# EAGLE library part P-06- (library con-headers-jp)
HEADER PLUG PINS
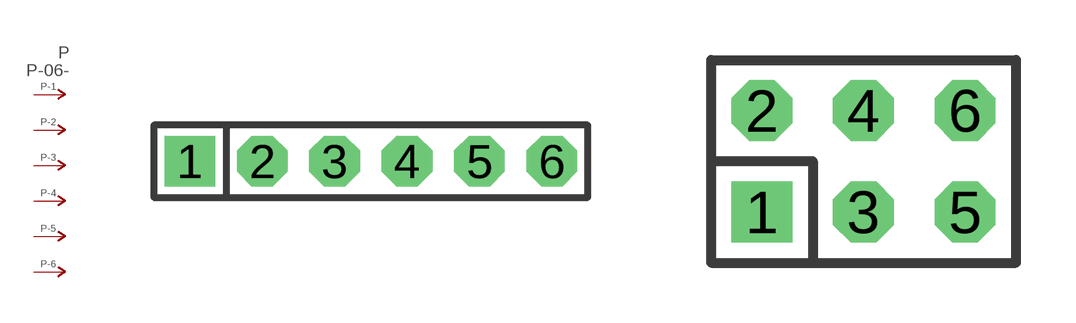
[diagram p10: symbol with the pads of SIP-100-06-40; footprints SIP-100-06-40, DIL-100-2X03]

Designator prefix P; gates -2=P-N -3=P-N -4=P-N -5=P-N -6=P-N -1=P-NV

## P-06-SIP-100-40  [SIP-100-06-40]
1  -1:P  pas
2  -2:P  pas
3  -3:P  pas
4  -4:P  pas
5  -5:P  pas
6  -6:P  pas

## P-06-100-2X03  [DIL-100-2X03]
Pads as for SIP-100-06-40

## P-06-100-2X03_M  [DIL-100-2X03_M]
Pads as for SIP-100-06-40

## P-06-2MM-2X03  [DIL-2MM-2X03]
Pads as for SIP-100-06-40

## P-06-2MM-2X03_M  [DIL-2MM-2X03_M]
Pads as for SIP-100-06-40

## P-06-SIP-100-32  [SIP-100-06-32]
Pads as for SIP-100-06-40

## P-06-SIP-100-40Y  [SIP-100-06-40Y]
Pads as for SIP-100-06-40

## P-06-SIP-100-32Y  [SIP-100-06-32Y]
Pads as for SIP-100-06-40

## P-06-LCW-106-XX-X-S  [LCW-106-XX-X-S]
Pads as for SIP-100-06-40

## P-06-LCW-106-XX-X-S-RE  [LCW-106-XX-X-S-RE]
Pads as for SIP-100-06-40

## Footprint SIP-100-06-40 (pad centres in mm)
SIP Header - 0.1", 40 mil drill
drill 1.016 pad 1.778 square: 1 -6.35,0
drill 1.016 pad 1.778 octagon: 2 -3.81,0; 3 -1.27,0; 4 1.27,0; 5 3.81,0; 6 6.35,0

## Footprint DIL-100-2X03 (pad centres in mm)
PIN HEADER - 0.1"
drill 1.016 square: 1 -2.54,-1.27
drill 1.016 octagon: 2 -2.54,1.27; 3 0,-1.27; 4 0,1.27; 5 2.54,-1.27; 6 2.54,1.27

## Footprint DIL-100-2X03_M (pad centres in mm)
PIN HEADER - MIRRORED 0.1"
drill 1.016 square: 1 -2.54,1.27
drill 1.016 octagon: 2 -2.54,-1.27; 3 0,1.27; 4 0,-1.27; 5 2.54,1.27; 6 2.54,-1.27

## Footprint DIL-2MM-2X03 (pad centres in mm)
PIN HEADER - 2MM"
drill 0.711 square: 1 -2,-1
drill 0.711 round: 2 -2,1; 3 0,-1; 4 0,1; 5 2,-1; 6 2,1

## Footprint DIL-2MM-2X03_M (pad centres in mm)
PIN HEADER - MIRRORED 2MM
drill 0.711 square: 1 -2,1
drill 0.711 round: 2 -2,-1; 3 0,1; 4 0,-1; 5 2,1; 6 2,-1

## Footprint SIP-100-06-32 (pad centres in mm)
SIP Header - 0.1", 32 mil drill
drill 0.813 pad 1.778 square: 1 -6.35,0
drill 0.813 pad 1.778 octagon: 2 -3.81,0; 3 -1.27,0; 4 1.27,0; 5 3.81,0; 6 6.35,0

## Footprint SIP-100-06-40Y (pad centres in mm)
SIP Header - 0.1", 40 mil drill
drill 1.016 long: 1 -6.35,0; 2 -3.81,0; 3 -1.27,0; 4 1.27,0; 5 3.81,0; 6 6.35,0

## Footprint SIP-100-06-32Y (pad centres in mm)
SIP Header - 0.1", 32 mil drill
drill 0.813 long: 1 -6.35,0; 2 -3.81,0; 3 -1.27,0; 4 1.27,0; 5 3.81,0; 6 6.35,0

## Footprint LCW-106-XX-X-S (pad centres in mm)
Samtec LCW Series friction lock strips, 0.025" square pins
drill 0.813 long: 1 6.35,0; 2 3.81,0; 3 1.27,0; 4 -1.27,0; 5 -3.81,0; 6 -6.35,0

## Footprint LCW-106-XX-X-S-RE (pad centres in mm)
Samtec LCW Series right angle, friction lock strips, 0.025" square pins
drill 0.813 long: 1 6.35,0; 2 3.81,0; 3 1.27,0; 4 -1.27,0; 5 -3.81,0; 6 -6.35,0